# EAGLE library part SSW-135-02-S-T (library con-samtec)
THROUGH-HOLE .025" SQ POST SOCKET Source: Samtec SSW.pdf
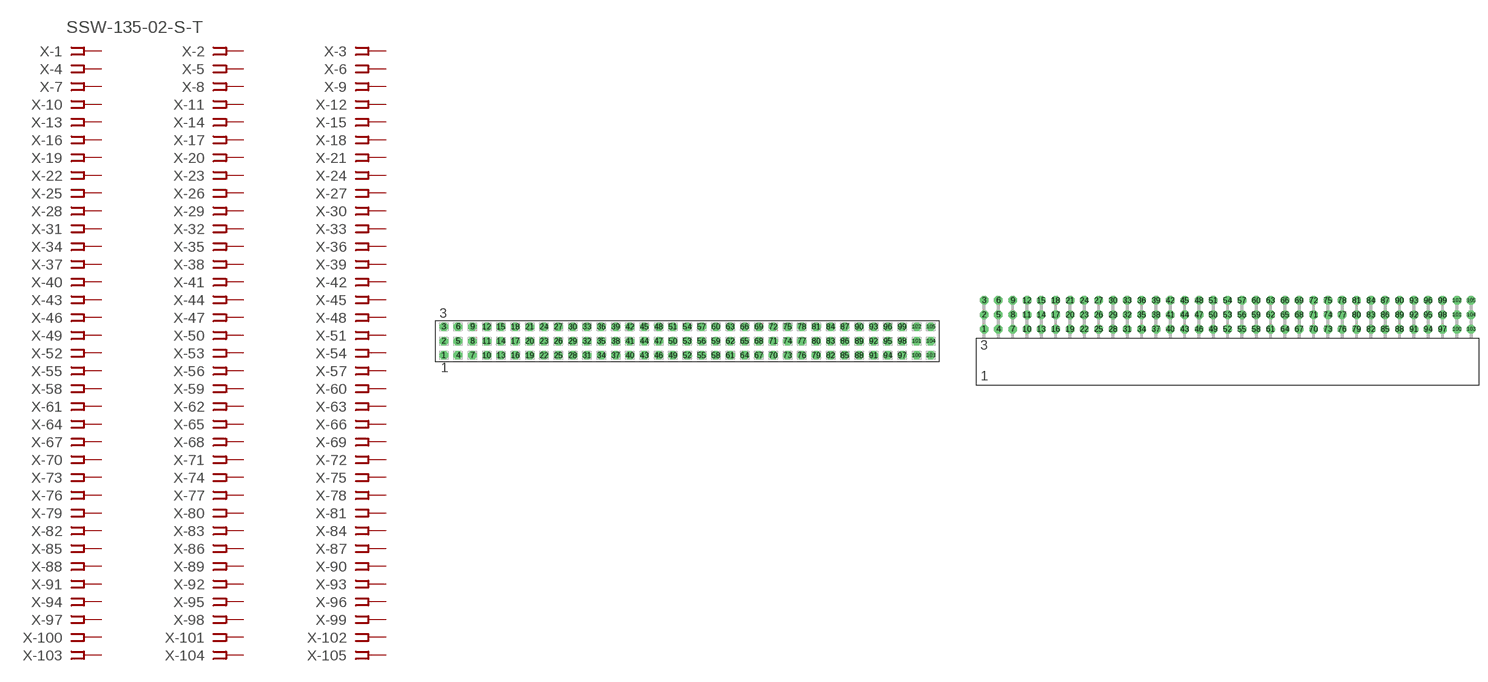
[diagram p21: symbol with the pads of SSW-135-02-S-T; footprints SSW-135-02-S-T, SSW-135-02-S-T-RA]

Designator prefix X; gates -1=FPINV -2=FPIN -3=FPIN -4=FPIN -5=FPIN -6=FPIN -7=FPIN -8=FPIN -9=FPIN -10=FPIN -11=FPIN -12=FPIN -13=FPIN -14=FPIN -15=FPIN -16=FPIN -17=FPIN -18=FPIN -19=FPIN -20=FPIN -21=FPIN -22=FPIN -23=FPIN -24=FPIN -25=FPIN -26=FPIN -27=FPIN -28=FPIN -29=FPIN -30=FPIN -31=FPIN -32=FPIN -33=FPIN -34=FPIN -35=FPIN -36=FPIN -37=FPIN -38=FPIN -39=FPIN -40=FPIN -41=FPIN -42=FPIN -43=FPIN -44=FPIN -45=FPIN -46=FPIN -47=FPIN -48=FPIN -49=FPIN -50=FPIN -51=FPIN -52=FPIN -53=FPIN -54=FPIN -55=FPIN -56=FPIN -57=FPIN -58=FPIN -59=FPIN -60=FPIN -61=FPIN -62=FPIN -63=FPIN -64=FPIN -65=FPIN -66=FPIN -67=FPIN -68=FPIN -69=FPIN -70=FPIN -71=FPIN -72=FPIN -73=FPIN -74=FPIN -75=FPIN -76=FPIN -77=FPIN -78=FPIN -79=FPIN -80=FPIN -81=FPIN -82=FPIN -83=FPIN -84=FPIN -85=FPIN -86=FPIN -87=FPIN -88=FPIN -89=FPIN -90=FPIN -91=FPIN -92=FPIN -93=FPIN -94=FPIN -95=FPIN -96=FPIN -97=FPIN -98=FPIN -99=FPIN -100=FPIN -101=FPIN -102=FPIN -103=FPIN -104=FPIN -105=FPIN

## SSW-135-02-S-T  [SSW-135-02-S-T]
1  -1:1  pas
2  -2:1  pas
3  -3:1  pas
4  -4:1  pas
5  -5:1  pas
6  -6:1  pas
7  -7:1  pas
8  -8:1  pas
9  -9:1  pas
10  -10:1  pas
11  -11:1  pas
12  -12:1  pas
13  -13:1  pas
14  -14:1  pas
15  -15:1  pas
16  -16:1  pas
17  -17:1  pas
18  -18:1  pas
19  -19:1  pas
20  -20:1  pas
21  -21:1  pas
22  -22:1  pas
23  -23:1  pas
24  -24:1  pas
25  -25:1  pas
26  -26:1  pas
27  -27:1  pas
28  -28:1  pas
29  -29:1  pas
30  -30:1  pas
31  -31:1  pas
32  -32:1  pas
33  -33:1  pas
34  -34:1  pas
35  -35:1  pas
36  -36:1  pas
37  -37:1  pas
38  -38:1  pas
39  -39:1  pas
40  -40:1  pas
41  -41:1  pas
42  -42:1  pas
43  -43:1  pas
44  -44:1  pas
45  -45:1  pas
46  -46:1  pas
47  -47:1  pas
48  -48:1  pas
49  -49:1  pas
50  -50:1  pas
51  -51:1  pas
52  -52:1  pas
53  -53:1  pas
54  -54:1  pas
55  -55:1  pas
56  -56:1  pas
57  -57:1  pas
58  -58:1  pas
59  -59:1  pas
60  -60:1  pas
61  -61:1  pas
62  -62:1  pas
63  -63:1  pas
64  -64:1  pas
65  -65:1  pas
66  -66:1  pas
67  -67:1  pas
68  -68:1  pas
69  -69:1  pas
70  -70:1  pas
71  -71:1  pas
72  -72:1  pas
73  -73:1  pas
74  -74:1  pas
75  -75:1  pas
76  -76:1  pas
77  -77:1  pas
78  -78:1  pas
79  -79:1  pas
80  -80:1  pas
81  -81:1  pas
82  -82:1  pas
83  -83:1  pas
84  -84:1  pas
85  -85:1  pas
86  -86:1  pas
87  -87:1  pas
88  -88:1  pas
89  -89:1  pas
90  -90:1  pas
91  -91:1  pas
92  -92:1  pas
93  -93:1  pas
94  -94:1  pas
95  -95:1  pas
96  -96:1  pas
97  -97:1  pas
98  -98:1  pas
99  -99:1  pas
100  -100:1  pas
101  -101:1  pas
102  -102:1  pas
103  -103:1  pas
104  -104:1  pas
105  -105:1  pas

## SSW-135-02-S-TRA  [SSW-135-02-S-T-RA]
Pads as for SSW-135-02-S-T

## Footprint SSW-135-02-S-T (pad centres in mm)
THROUGH-HOLE .025" SQ POST SOCKET Source: Samtec SSW.pdf
drill 1 pad 1.5 octagon: 1 -43.18,-2.54; 2 -43.18,0; 3 -43.18,2.54; 4 -40.64,-2.54; 5 -40.64,0; 6 -40.64,2.54; 7 -38.1,-2.54; 8 -38.1,0; 9 -38.1,2.54; 10 -35.56,-2.54; 11 -35.56,0; 12 -35.56,2.54; 13 -33.02,-2.54; 14 -33.02,0; 15 -33.02,2.54; 16 -30.48,-2.54; 17 -30.48,0; 18 -30.48,2.54; 19 -27.94,-2.54; 20 -27.94,0; 21 -27.94,2.54; 22 -25.4,-2.54; 23 -25.4,0; 24 -25.4,2.54; 25 -22.86,-2.54; 26 -22.86,0; 27 -22.86,2.54; 28 -20.32,-2.54; 29 -20.32,0; 30 -20.32,2.54; 31 -17.78,-2.54; 32 -17.78,0; 33 -17.78,2.54; 34 -15.24,-2.54; 35 -15.24,0; 36 -15.24,2.54; 37 -12.7,-2.54; 38 -12.7,0; 39 -12.7,2.54; 40 -10.16,-2.54; 41 -10.16,0; 42 -10.16,2.54; 43 -7.62,-2.54; 44 -7.62,0; 45 -7.62,2.54; 46 -5.08,-2.54; 47 -5.08,0; 48 -5.08,2.54; 49 -2.54,-2.54; 50 -2.54,0; 51 -2.54,2.54; 52 0,-2.54; 53 0,0; 54 0,2.54; 55 2.54,-2.54; 56 2.54,0; 57 2.54,2.54; 58 5.08,-2.54; 59 5.08,0; 60 5.08,2.54; 61 7.62,-2.54; 62 7.62,0; 63 7.62,2.54; 64 10.16,-2.54; 65 10.16,0; 66 10.16,2.54; 67 12.7,-2.54; 68 12.7,0; 69 12.7,2.54; 70 15.24,-2.54; 71 15.24,0; 72 15.24,2.54; 73 17.78,-2.54; 74 17.78,0; 75 17.78,2.54; 76 20.32,-2.54; 77 20.32,0; 78 20.32,2.54; 79 22.86,-2.54; 80 22.86,0; 81 22.86,2.54; 82 25.4,-2.54; 83 25.4,0; 84 25.4,2.54; 85 27.94,-2.54; 86 27.94,0; 87 27.94,2.54; 88 30.48,-2.54; 89 30.48,0; 90 30.48,2.54; 91 33.02,-2.54; 92 33.02,0; 93 33.02,2.54; 94 35.56,-2.54; 95 35.56,0; 96 35.56,2.54; 97 38.1,-2.54; 98 38.1,0; 99 38.1,2.54; 100 40.64,-2.54; 101 40.64,0; 102 40.64,2.54; 103 43.18,-2.54; 104 43.18,0; 105 43.18,2.54

## Footprint SSW-135-02-S-T-RA (pad centres in mm)
THROUGH-HOLE .025" SQ POST SOCKET Source: Samtec SSW.pdf
drill 1 pad 1.5 octagon: 1 -43.18,1.524; 2 -43.18,4.064; 3 -43.18,6.604; 4 -40.64,1.524; 5 -40.64,4.064; 6 -40.64,6.604; 7 -38.1,1.524; 8 -38.1,4.064; 9 -38.1,6.604; 10 -35.56,1.524; 11 -35.56,4.064; 12 -35.56,6.604; 13 -33.02,1.524; 14 -33.02,4.064; 15 -33.02,6.604; 16 -30.48,1.524; 17 -30.48,4.064; 18 -30.48,6.604; 19 -27.94,1.524; 20 -27.94,4.064; 21 -27.94,6.604; 22 -25.4,1.524; 23 -25.4,4.064; 24 -25.4,6.604; 25 -22.86,1.524; 26 -22.86,4.064; 27 -22.86,6.604; 28 -20.32,1.524; 29 -20.32,4.064; 30 -20.32,6.604; 31 -17.78,1.524; 32 -17.78,4.064; 33 -17.78,6.604; 34 -15.24,1.524; 35 -15.24,4.064; 36 -15.24,6.604; 37 -12.7,1.524; 38 -12.7,4.064; 39 -12.7,6.604; 40 -10.16,1.524; 41 -10.16,4.064; 42 -10.16,6.604; 43 -7.62,1.524; 44 -7.62,4.064; 45 -7.62,6.604; 46 -5.08,1.524; 47 -5.08,4.064; 48 -5.08,6.604; 49 -2.54,1.524; 50 -2.54,4.064; 51 -2.54,6.604; 52 0,1.524; 53 0,4.064; 54 0,6.604; 55 2.54,1.524; 56 2.54,4.064; 57 2.54,6.604; 58 5.08,1.524; 59 5.08,4.064; 60 5.08,6.604; 61 7.62,1.524; 62 7.62,4.064; 63 7.62,6.604; 64 10.16,1.524; 65 10.16,4.064; 66 10.16,6.604; 67 12.7,1.524; 68 12.7,4.064; 69 12.7,6.604; 70 15.24,1.524; 71 15.24,4.064; 72 15.24,6.604; 73 17.78,1.524; 74 17.78,4.064; 75 17.78,6.604; 76 20.32,1.524; 77 20.32,4.064; 78 20.32,6.604; 79 22.86,1.524; 80 22.86,4.064; 81 22.86,6.604; 82 25.4,1.524; 83 25.4,4.064; 84 25.4,6.604; 85 27.94,1.524; 86 27.94,4.064; 87 27.94,6.604; 88 30.48,1.524; 89 30.48,4.064; 90 30.48,6.604; 91 33.02,1.524; 92 33.02,4.064; 93 33.02,6.604; 94 35.56,1.524; 95 35.56,4.064; 96 35.56,6.604; 97 38.1,1.524; 98 38.1,4.064; 99 38.1,6.604; 100 40.64,1.524; 101 40.64,4.064; 102 40.64,6.604; 103 43.18,1.524; 104 43.18,4.064; 105 43.18,6.604